# Altium footprint library PcbLib1.PcbLib: 19 footprints (part 1 of 2)
Each footprint in its own frame and in the unit in brackets; x right, y up, seen from the top. Pads: shape width x height; smd on the part's side, far side on the other; paste and mask are expansions set on the pad; w line width, h text height; cw(c..) or ccw(c..) is an arc to the next point about the centre after c.
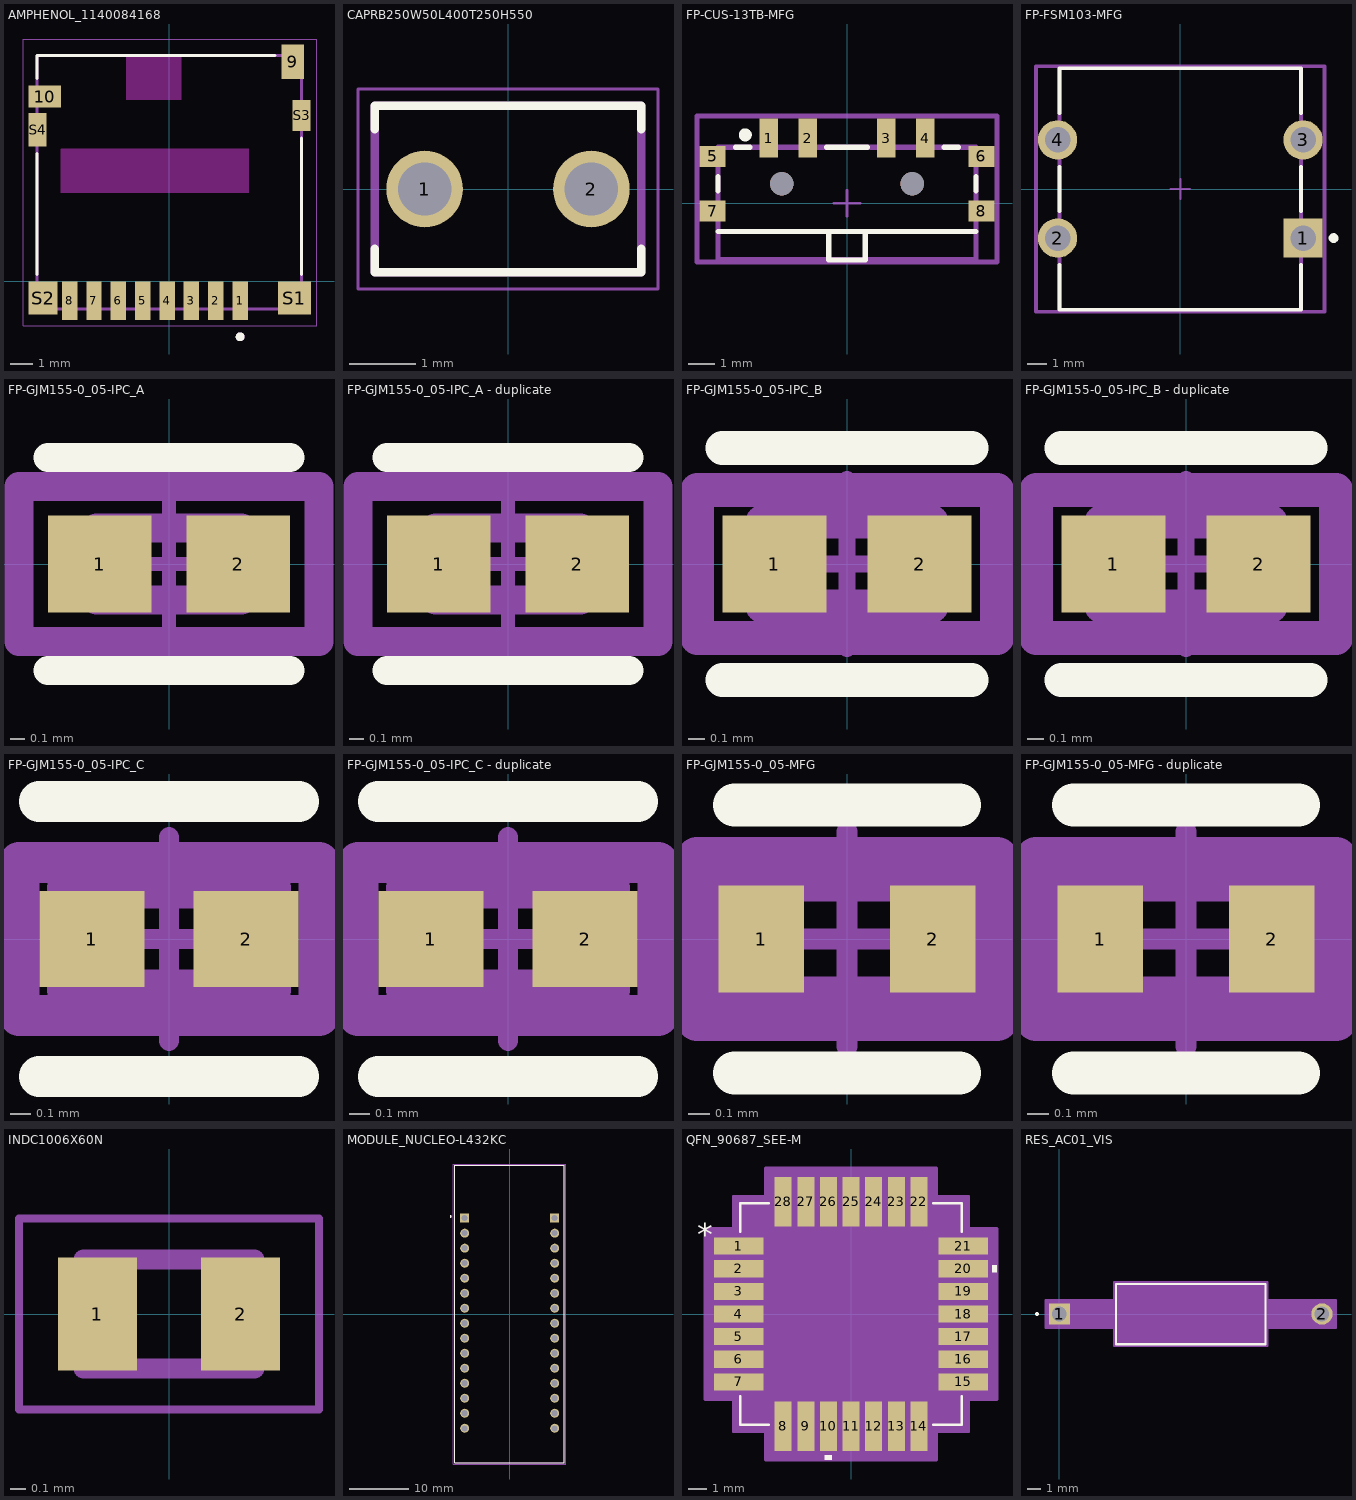
[diagram p0: the footprints below, top view; thin cyan lines are the x and y axes]

## AMPHENOL_1140084168 [mm]
height 1.68
pads (14):
  rect 0.7x1.75 smd: 1(3.2,-0.875) 2(2.1,-0.875) 3(1,-0.875) 4(-0.1,-0.875) 5(-1.2,-0.875) 6(-2.3,-0.875) 7(-3.4,-0.875) 8(-4.5,-0.875)
  rect 1x1.55 smd: 9(5.575,9.925)
  rect 1.45x1 smd: 10(-5.625,8.35)
  rect 1.5x1.5 smd: S1(5.65,-0.75)
  rect 1.3x1.5 smd: S2(-5.7,-0.75)
  rect 0.8x1.4 smd: S3(5.975,7.5)
  rect 0.8x1.5 smd: S4(-5.95,6.85)
Top Overlay:
  circle w0.2: c3.2,-2.5 r0.1
  lines w0.127: -5.975,0.32 -5.975,5.78 ; -5.975,9.17 -5.975,10.2 4.78,10.2 ; 5.975,0.32 5.975,6.48
Keep-Out Layer:
  region: 0.55,8.2 -1.95,8.2 -1.95,10.2 0.55,10.2
  region: 3.6,4 -4.9,4 -4.9,6 3.6,6
Mechanical 13:
  circle w0.2: c3.2,-2.5 r0.1
  lines w0.127: -5.975,-1.25 -5.975,10.2 5.975,10.2 5.975,-1.25 -5.975,-1.25
Mechanical 15:
  lines w0.05: -6.6,-2 6.65,-2 6.65,10.95 -6.6,10.95 -6.6,-2
3D body "step_temp.STEP": height 1.4, standoff -0.1, extent -6.051,-1.38 5.969,10.27

## CAPRB250W50L400T250H550 [mm]
pads (2):
  round 1.15 hole 0.8: 1(-1.25,0) 2(1.25,0)
Top Overlay:
  lines w0.127: -2,-0.895 -2,-1.25 2,-1.25 2,-0.895 ; -2,0.895 -2,1.25 2,1.25 2,0.895
Mechanical 13:
  lines w0.127: -2,-1.25 2,-1.25 2,1.25 -2,1.25 -2,-1.25
Mechanical 15:
  lines w0.05: -2.25,-1.5 2.25,-1.5 2.25,1.5 -2.25,1.5 -2.25,-1.5

## FP-CUS-13TB-MFG [mm]
pads (10):
  rect 0.7x1.5 smd paste+0 mask+0: 1(-3,2.5) 2(-1.5,2.5) 3(1.5,2.5) 4(3,2.5)
  rect 1x0.8 smd paste+0 mask+0: 5(-5.15,1.8) 6(5.15,1.8) 7(-5.15,-0.3) 8(5.15,-0.3)
  round 0.9 hole 0.9 unplated paste-2539.97 mask+0: ""(-2.5,0.75) ""(2.5,0.75)
Top Overlay:
  circle w0.25: c-3.9,2.625 r0.125
  lines w0.2: -4.95,-1.075 4.95,-1.075 ; -4.95,0.475 -4.95,1.025 ; -4.275,2.15 -3.725,2.15 ; -0.775,2.15 0.775,2.15 ; 3.725,2.15 4.275,2.15 ; 4.95,0.475 4.95,1.025 ; -0.7,-2.175 0.7,-2.175 0.7,-1.075 -0.7,-1.075 -0.7,-2.175
Top 3D Body:
  lines w0.2: -4.95,-2.15 4.95,-2.15 4.95,2.15 -4.95,2.15 -4.95,-2.15
Top Courtyard:
  lines w0.2: -5.75,-2.25 5.75,-2.25 5.75,3.35 -5.75,3.35 -5.75,-2.25
Top Assembly:
  lines w0.2: -5.75,-2.25 5.75,-2.25 5.75,3.35 -5.75,3.35 -5.75,-2.25
  text ".Designator" at 0,0.549 h1
Top Component Center:
  lines w0.1: -0.5,0 0.5,0 ; 0,-0.5 0,0.5
3D body "Switch_Nidec_Copal_CUS-13TB_eec.STEP": height 0.25, standoff 0, extent -5.75,-2.25 5.75,3.35

## FP-FSM103-MFG [mm]
pads (4):
  rect 2x2 hole 1.3 paste-2539.97 mask+0: 1(6.25,-2.5)
  round 2 hole 1.3 paste-2539.97 mask+0: 2(-6.25,-2.5) 3(6.25,2.5) 4(-6.25,2.5)
Top Overlay:
  circle w0.25: c7.8,-2.5 r0.125
  lines w0.2: -6.15,-3.875 -6.15,-6.15 6.15,-6.15 6.15,-3.875 ; -6.15,-1.125 -6.15,1.125 ; -6.15,3.875 -6.15,6.15 6.15,6.15 6.15,3.875 ; 6.15,-1.125 6.15,1.125
Top 3D Body:
  lines w0.2: -6.15,-6.15 -6.15,6.15 6.15,6.15 6.15,-6.15 -6.15,-6.15
Top Courtyard:
  lines w0.2: -7.35,-6.25 -7.35,6.25 7.35,6.25 7.35,-6.25 -7.35,-6.25
Top Assembly:
  lines w0.2: -7.35,-6.25 -7.35,6.25 7.35,6.25 7.35,-6.25 -7.35,-6.25
  text ".Designator" at 0,0.188 h1
Top Component Center:
  lines w0.1: -0.5,0 0.5,0 ; 0,-0.5 0,0.5
3D body "Switch_TE_Connectivity_FSM103_eec.STEP": height 0.25, standoff 0, extent -7.35,-6.25 7.35,6.25

## FP-GJM155-0_05-IPC_A [mm]
pads (2):
  rect 0.715x0.672 smd paste+0 mask+0: 1(-0.479,0) 2(0.479,0)
Top Overlay:
  lines w0.2: -0.836,-0.736 0.836,-0.736 ; -0.836,0.736 0.836,0.736
Top 3D Body:
  lines w0.2: -0.5,-0.25 0.5,-0.25 0.5,0.25 -0.5,0.25 -0.5,-0.25
Top Courtyard:
  lines w0.2: -1.036,-0.536 1.036,-0.536 1.036,0.536 -1.036,0.536 -1.036,-0.536
Top Assembly:
  lines w0.2: -1.036,-0.536 1.036,-0.536 1.036,0.536 -1.036,0.536 -1.036,-0.536
  text ".Designator" at 0,0.188 h1
Top Component Center:
  lines w0.1: -0.5,0 0.5,0 ; 0,-0.5 0,0.5
3D body "Cap_Murata_GJM1551C1H7R0DB01D_eec.STEP": height 0.25, standoff 0, extent -1.036,-0.536 1.036,0.536

## FP-GJM155-0_05-IPC_A - duplicate [mm]
pads (2):
  rect 0.715x0.672 smd paste+0 mask+0: 1(-0.479,0) 2(0.479,0)
Top Overlay:
  lines w0.2: -0.836,-0.736 0.836,-0.736 ; -0.836,0.736 0.836,0.736
Top 3D Body:
  lines w0.2: -0.5,-0.25 0.5,-0.25 0.5,0.25 -0.5,0.25 -0.5,-0.25
Top Courtyard:
  lines w0.2: -1.036,-0.536 1.036,-0.536 1.036,0.536 -1.036,0.536 -1.036,-0.536
Top Assembly:
  lines w0.2: -1.036,-0.536 1.036,-0.536 1.036,0.536 -1.036,0.536 -1.036,-0.536
  text ".Designator" at 0,0.188 h1
Top Component Center:
  lines w0.1: -0.5,0 0.5,0 ; 0,-0.5 0,0.5
3D body "Cap_Murata_GJM1551C1H7R0DB01D_eec.STEP": height 0.25, standoff 0, extent -1.036,-0.536 1.036,0.536

## FP-GJM155-0_05-IPC_B [mm]
pads (2):
  rect 0.615x0.572 smd paste+0 mask+0: 1(-0.429,0) 2(0.429,0)
Top Overlay:
  lines w0.2: -0.736,-0.686 0.736,-0.686 ; -0.736,0.686 0.736,0.686
Top 3D Body:
  lines w0.2: -0.5,-0.25 -0.5,0.25 0.5,0.25 0.5,-0.25 -0.5,-0.25
Top Courtyard:
  lines w0.2: -0.886,-0.436 -0.886,0.436 0.886,0.436 0.886,-0.436 -0.886,-0.436
Top Assembly:
  lines w0.2: -0.886,-0.436 -0.886,0.436 0.886,0.436 0.886,-0.436 -0.886,-0.436
  text ".Designator" at 0,0.188 h1
Top Component Center:
  lines w0.1: -0.5,0 0.5,0 ; 0,-0.5 0,0.5
3D body "Cap_Murata_GJM1551C1H7R0DB01D_eec.STEP": height 0.25, standoff 0, extent -0.886,-0.436 0.886,0.436

## FP-GJM155-0_05-IPC_B - duplicate [mm]
pads (2):
  rect 0.615x0.572 smd paste+0 mask+0: 1(-0.429,0) 2(0.429,0)
Top Overlay:
  lines w0.2: -0.736,-0.686 0.736,-0.686 ; -0.736,0.686 0.736,0.686
Top 3D Body:
  lines w0.2: -0.5,-0.25 -0.5,0.25 0.5,0.25 0.5,-0.25 -0.5,-0.25
Top Courtyard:
  lines w0.2: -0.886,-0.436 -0.886,0.436 0.886,0.436 0.886,-0.436 -0.886,-0.436
Top Assembly:
  lines w0.2: -0.886,-0.436 -0.886,0.436 0.886,0.436 0.886,-0.436 -0.886,-0.436
  text ".Designator" at 0,0.188 h1
Top Component Center:
  lines w0.1: -0.5,0 0.5,0 ; 0,-0.5 0,0.5
3D body "Cap_Murata_GJM1551C1H7R0DB01D_eec.STEP": height 0.25, standoff 0, extent -0.886,-0.436 0.886,0.436

## FP-GJM155-0_05-IPC_C [mm]
pads (2):
  rect 0.515x0.472 smd paste+0 mask+0: 1(-0.379,0) 2(0.379,0)
Top Overlay:
  lines w0.2: -0.636,-0.675 0.636,-0.675 ; -0.636,0.675 0.636,0.675
Top 3D Body:
  lines w0.2: -0.5,-0.25 0.5,-0.25 0.5,0.25 -0.5,0.25 -0.5,-0.25
Top Courtyard:
  lines w0.2: -0.736,-0.375 0.736,-0.375 0.736,0.375 -0.736,0.375 -0.736,-0.375
Top Assembly:
  lines w0.2: -0.736,-0.375 0.736,-0.375 0.736,0.375 -0.736,0.375 -0.736,-0.375
  text ".Designator" at 0,0.188 h1
Top Component Center:
  lines w0.1: -0.5,0 0.5,0 ; 0,-0.5 0,0.5
3D body "Cap_Murata_GJM1551C1H7R0DB01D_eec.STEP": height 0.25, standoff 0, extent -0.736,-0.375 0.736,0.375

## FP-GJM155-0_05-IPC_C - duplicate [mm]
pads (2):
  rect 0.515x0.472 smd paste+0 mask+0: 1(-0.379,0) 2(0.379,0)
Top Overlay:
  lines w0.2: -0.636,-0.675 0.636,-0.675 ; -0.636,0.675 0.636,0.675
Top 3D Body:
  lines w0.2: -0.5,-0.25 -0.5,0.25 0.5,0.25 0.5,-0.25 -0.5,-0.25
Top Courtyard:
  lines w0.2: -0.736,-0.375 -0.736,0.375 0.736,0.375 0.736,-0.375 -0.736,-0.375
Top Assembly:
  lines w0.2: -0.736,-0.375 -0.736,0.375 0.736,0.375 0.736,-0.375 -0.736,-0.375
  text ".Designator" at 0,0.188 h1
Top Component Center:
  lines w0.1: -0.5,0 0.5,0 ; 0,-0.5 0,0.5
3D body "Cap_Murata_GJM1551C1H7R0DB01D_eec.STEP": height 0.25, standoff 0, extent -0.736,-0.375 0.736,0.375

## FP-GJM155-0_05-MFG [mm]
pads (2):
  rect 0.4x0.5 smd paste+0 mask+0: 1(-0.4,0) 2(0.4,0)
Top Overlay:
  lines w0.2: -0.525,-0.625 0.525,-0.625 ; -0.525,0.625 0.525,0.625
Top 3D Body:
  lines w0.2: -0.525,-0.275 0.525,-0.275 0.525,0.275 -0.525,0.275 -0.525,-0.275
Top Courtyard:
  lines w0.2: -0.7,-0.375 0.7,-0.375 0.7,0.375 -0.7,0.375 -0.7,-0.375
Top Assembly:
  lines w0.2: -0.7,-0.375 0.7,-0.375 0.7,0.375 -0.7,0.375 -0.7,-0.375
  text ".Designator" at 0,0.188 h1
Top Component Center:
  lines w0.1: -0.5,0 0.5,0 ; 0,-0.5 0,0.5
3D body "Cap_Murata_GJM1551C1H7R0DB01D_eec.STEP": height 0.25, standoff 0, extent -0.7,-0.375 0.7,0.375

## FP-GJM155-0_05-MFG - duplicate [mm]
pads (2):
  rect 0.4x0.5 smd paste+0 mask+0: 1(-0.4,0) 2(0.4,0)
Top Overlay:
  lines w0.2: -0.525,-0.625 0.525,-0.625 ; -0.525,0.625 0.525,0.625
Top 3D Body:
  lines w0.2: -0.525,-0.275 -0.525,0.275 0.525,0.275 0.525,-0.275 -0.525,-0.275
Top Courtyard:
  lines w0.2: -0.7,-0.375 -0.7,0.375 0.7,0.375 0.7,-0.375 -0.7,-0.375
Top Assembly:
  lines w0.2: -0.7,-0.375 -0.7,0.375 0.7,0.375 0.7,-0.375 -0.7,-0.375
  text ".Designator" at 0,0.188 h1
Top Component Center:
  lines w0.1: -0.5,0 0.5,0 ; 0,-0.5 0,0.5
3D body "Cap_Murata_GJM1551C1H7R0DB01D_eec.STEP": height 0.25, standoff 0, extent -0.7,-0.375 0.7,0.375

## INDC1006X60N [mm]
pads (2):
  rect 0.51x0.73 smd: 1(-0.46,0) 2(0.46,0)
Mechanical 13:
  lines w0.127: -0.55,-0.35 0.55,-0.35 0.55,0.35 -0.55,0.35 -0.55,-0.35
Mechanical 15:
  lines w0.05: -0.965,-0.615 0.965,-0.615 0.965,0.615 -0.965,0.615 -0.965,-0.615

## MODULE_NUCLEO-L432KC [mm]
pads (30):
  rect 1.53x1.53 / inner round 1.53 / far side rect 1.53x1.53 hole 1.02: CN3_1(-7.62,16.215) CN4_1(7.62,16.215)
  round 1.53 hole 1.02: CN3_2(-7.62,13.675) CN3_3(-7.62,11.135) CN3_4(-7.62,8.595) CN3_5(-7.62,6.055) CN3_6(-7.62,3.515) CN3_7(-7.62,0.975) CN3_8(-7.62,-1.565) CN3_9(-7.62,-4.105) CN3_10(-7.62,-6.645) CN3_11(-7.62,-9.185) CN3_12(-7.62,-11.725) CN3_13(-7.62,-14.265) CN3_14(-7.62,-16.805) CN3_15(-7.62,-19.345) CN4_2(7.62,13.675) CN4_3(7.62,11.135) CN4_4(7.62,8.595) CN4_5(7.62,6.055) CN4_6(7.62,3.515) CN4_7(7.62,0.975) CN4_8(7.62,-1.565) CN4_9(7.62,-4.105) CN4_10(7.62,-6.645) CN4_11(7.62,-9.185) CN4_12(7.62,-11.725) CN4_13(7.62,-14.265) CN4_14(7.62,-16.805) CN4_15(7.62,-19.345)
Top Overlay:
  circle w0.2: c-10,16.5 r0.1
  lines w0.127: -9.27,-25.145 -9.27,25.145 9.27,25.145 9.27,-25.145 -9.27,-25.145
Mechanical 13:
  circle w0.2: c-10,16.5 r0.1
  lines w0.127: -9.27,-25.145 9.27,-25.145 9.27,25.145 -9.27,25.145 -9.27,-25.145
Mechanical 15:
  lines w0.05: -9.52,-25.395 9.52,-25.395 9.52,25.395 -9.52,25.395 -9.52,-25.395
3D body "step_temp.STEP": height 8.5, standoff -6, extent -9.274,-25.819 9.271,26.184

## QFN_90687_SEE-M [mil]
pads (28):
  rect 107x37 smd paste+0 mask+0: 1(-244,147.64) 2(-244,98.43) 3(-244,49.21) 4(-244,0) 5(-244,-49.21) 6(-244,-98.43) 7(-244,-147.64) 15(244,-147.64) 16(244,-98.43) 17(244,-49.21) 18(244,0) 19(244,49.21) 20(244,98.43) 21(244,147.64)
  rect 37x107 smd paste+0 mask+0: 8(-147.64,-244) 9(-98.43,-244) 10(-49.21,-244) 11(0,-244) 12(49.21,-244) 13(98.43,-244) 14(147.64,-244) 22(147.64,244) 23(98.43,244) 24(49.21,244) 25(0,244) 26(-49.21,244) 27(-98.43,244) 28(-147.64,244)
Top Overlay:
  region: 307.5,105.93 317.5,105.93 317.5,90.93 307.5,90.93
  region: -41.71,-307.5 -56.71,-307.5 -56.71,-317.5 -41.71,-317.5
  lines w6: -241,-179.24 -241,-241 -179.24,-241 ; -241,179.24 -241,241 -179.24,241 ; 179.24,-241 241,-241 241,-179.24 ; 179.24,241 241,241 241,179.24
  text "*" at -335,147.24 h50
Mechanical 13:
  lines w1: -236,186 -186,236 ; -281.5,-167.14 -236,-167.14 -236,-128.14 -281.5,-128.14 -281.5,-167.14 ; -281.5,-117.93 -236,-117.93 -236,-78.93 -281.5,-78.93 -281.5,-117.93 ; -281.5,-68.71 -236,-68.71 -236,-29.71 -281.5,-29.71 -281.5,-68.71 ; -281.5,-19.5 -236,-19.5 -236,19.5 -281.5,19.5 -281.5,-19.5 ; -281.5,29.71 -236,29.71 -236,68.71 -281.5,68.71 -281.5,29.71 ; -281.5,78.93 -236,78.93 -236,117.93 -281.5,117.93 -281.5,78.93 ; -281.5,128.14 -236,128.14 -236,167.14 -281.5,167.14 -281.5,128.14 ; -236,-236 -236,236 236,236 236,-236 -236,-236 ; -167.14,-281.5 -128.14,-281.5 -128.14,-236 -167.14,-236 -167.14,-281.5 ; -167.14,236 -167.14,281.5 -128.14,281.5 -128.14,236 -167.14,236 ; -117.93,-281.5 -78.93,-281.5 -78.93,-236 -117.93,-236 -117.93,-281.5 ; -117.93,236 -117.93,281.5 -78.93,281.5 -78.93,236 -117.93,236 ; -68.71,-281.5 -29.71,-281.5 -29.71,-236 -68.71,-236 -68.71,-281.5 ; -68.71,236 -68.71,281.5 -29.71,281.5 -29.71,236 -68.71,236 ; -19.5,-281.5 19.5,-281.5 19.5,-236 -19.5,-236 -19.5,-281.5 ; -19.5,236 -19.5,281.5 19.5,281.5 19.5,236 -19.5,236 ; 29.71,-281.5 68.71,-281.5 68.71,-236 29.71,-236 29.71,-281.5 ; 29.71,236 29.71,281.5 68.71,281.5 68.71,236 29.71,236 ; 78.93,-281.5 117.93,-281.5 117.93,-236 78.93,-236 78.93,-281.5 ; 78.93,236 78.93,281.5 117.93,281.5 117.93,236 78.93,236 ; 128.14,-281.5 167.14,-281.5 167.14,-236 128.14,-236 128.14,-281.5 ; 128.14,236 128.14,281.5 167.14,281.5 167.14,236 128.14,236 ; 236,-167.14 281.5,-167.14 281.5,-128.14 236,-128.14 236,-167.14 ; 236,-117.93 281.5,-117.93 281.5,-78.93 236,-78.93 236,-117.93 ; 236,-68.71 281.5,-68.71 281.5,-29.71 236,-29.71 236,-68.71 ; 236,-19.5 281.5,-19.5 281.5,19.5 236,19.5 236,-19.5 ; 236,29.71 281.5,29.71 281.5,68.71 236,68.71 236,29.71 ; 236,78.93 281.5,78.93 281.5,117.93 236,117.93 236,78.93 ; 236,128.14 281.5,128.14 281.5,167.14 236,167.14 236,128.14
  text "*" at -203,147.24 h50
Mechanical 15:
  region: -186.14,-256 -256,-256 -256,-186.14 -317.5,-186.14 -317.5,186.14 -256,186.14 -256,256 -186.14,256 -186.14,317.5 186.14,317.5 186.14,256 256,256 256,186.14 317.5,186.14 317.5,-186.14 256,-186.14 256,-256 186.14,-256 186.14,-317.5 -186.14,-317.5
  lines w6: -317.5,-186.14 -317.5,186.14 -256,186.14 -256,256 -186.14,256 -186.14,317.5 186.14,317.5 186.14,256 256,256 256,186.14 317.5,186.14 317.5,-186.14 256,-186.14 256,-256 186.14,-256 186.14,-317.5 -186.14,-317.5 -186.14,-256 -256,-256 -256,-186.14 -317.5,-186.14
3D body "QFN_90687_SEE.step": height 98.11, standoff 0, extent -281.5,-281.5 281.5,281.5

## RES_AC01_VIS [mil]
pads (2):
  rect 63x63 / inner round 60 / far side rect 63x63 hole 43 paste-99999 mask+0: 1(0,0)
  round 63 / inner round 60 / far side round 63 hole 43 paste-99999 mask+0: 2(777,0)
Top Overlay:
  circle w6: c-66.5,0 r3
  lines w6: 167,-89.5 610,-89.5 610,89.5 167,89.5 167,-89.5
Mechanical 13:
  circle w0: c182,0 r3
  lines w1: 0,0 172,0 ; 605,0 777,0 ; 172,-84.5 605,-84.5 605,84.5 172,84.5 172,-84.5
Mechanical 15:
  region: 162,-41.5 -41.5,-41.5 -41.5,41.5 162,41.5 162,94.5 615,94.5 615,41.5 818.5,41.5 818.5,-41.5 615,-41.5 615,-94.5 162,-94.5
  lines w6: -41.5,-41.5 -41.5,41.5 162,41.5 162,94.5 615,94.5 615,41.5 818.5,41.5 818.5,-41.5 615,-41.5 615,-94.5 162,-94.5 162,-41.5 -41.5,-41.5
3D body "RES_AC01_VIS.step": height 169.06, standoff -100, extent -16.5,-84.14 793.5,84.14